# Altium schematic symbol library MC34673AEPR2.SchLib: 1 symbol
Pins are listed as number, name and electrical type; pins without a type are passive.

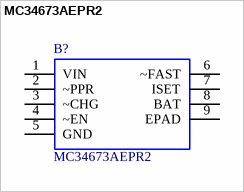
[diagram p0: symbol MC34673AEPR2]

## MC34673AEPR2
designator B?
Single-cell Li-Ion Batteries; Manufacturer_Name: Nexperia; Geometry.Height: mm; Supplier_Name: RS; RS Part Number: *; Manufacturer_Part_Number: MC34673AEPR2; Allied_Number: *; Other Part Number: *; Datasheet Link: *; 3D Package: *
footprint DFN200X300X65-9N
pins: 1 VIN, 2 ~PPR, 3 ~CHG, 4 ~EN, 5 GND, 6 ~FAST, 7 ISET, 8 BAT, 9 EPAD